# Altium footprint library Molex_Picoblade_8pin_0530470810.PcbLib: 1 footprints
Each footprint in its own frame and in the unit in brackets; x right, y up, seen from the top. Pads: shape width x height; smd on the part's side, far side on the other; paste and mask are expansions set on the pad; w line width, h text height; cw(c..) or ccw(c..) is an arc to the next point about the centre after c.
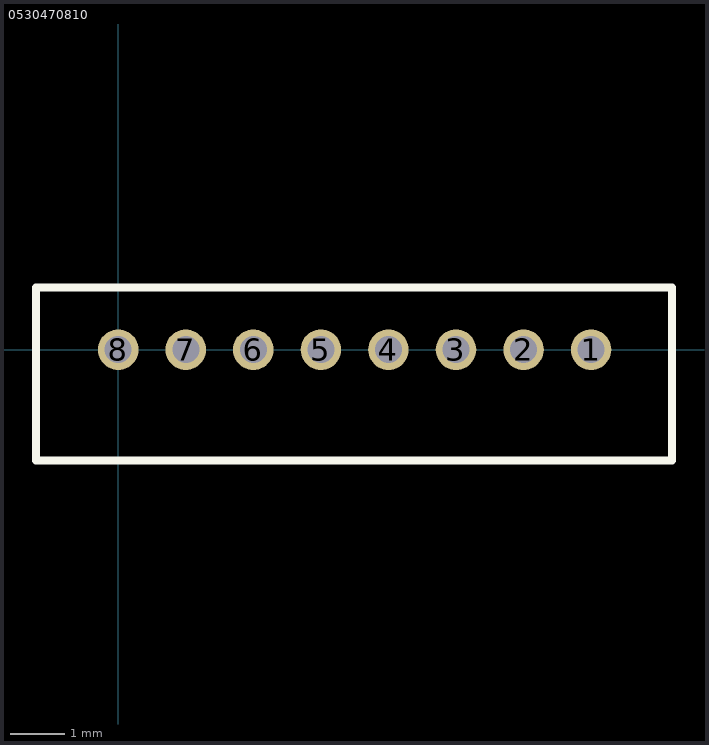
[diagram p0: the footprint, top view; thin cyan lines are the x and y axes]

## 0530470810 [mm] "Molex 0530470810"
height 5.2
pads (8):
  round 0.75 hole 0.5: 1(8.75,0) 2(7.5,0) 3(6.25,0) 4(5,0) 5(3.75,0) 6(2.5,0) 7(1.25,0) 8(0,0)
Top Overlay:
  lines w0.15: -1.524,1.15 10.249,1.15 10.25,-2.05 -1.523,-2.05 -1.524,1.15
3D body "Molex_0530470810.stp": height 4.25, standoff -2.25, extent -1.505,-2.05 10.245,1.15